# Altium schematic symbol library SCH - CONNECTORS - Samtec FTS-110-02-X-DV.Schlib: 1 symbol
Pins are listed as number, name and electrical type; pins without a type are passive.

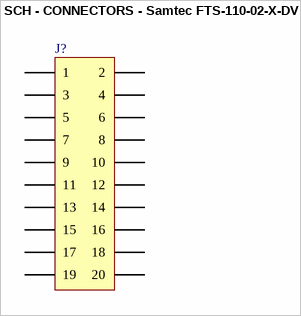
[diagram p0: symbol SCH - CONNECTORS - Samtec FTS-110-02-X-DV]

## SCH - CONNECTORS - Samtec FTS-110-02-X-DV
designator J?
footprint FTS-110-02-X-DV (Micro Header, 1,27mm, SMD)
pins: 1, 2, 3, 4, 5, 6, 7, 8, 9, 10, 11, 12, 13, 14, 15, 16, 17, 18, 19, 20